# Altium footprint library Connectors.PcbLib: 73 footprints (part 3 of 5)
Each footprint in its own frame and in the unit in brackets; x right, y up, seen from the top. Pads: shape width x height; smd on the part's side, far side on the other; paste and mask are expansions set on the pad; w line width, h text height; cw(c..) or ccw(c..) is an arc to the next point about the centre after c.
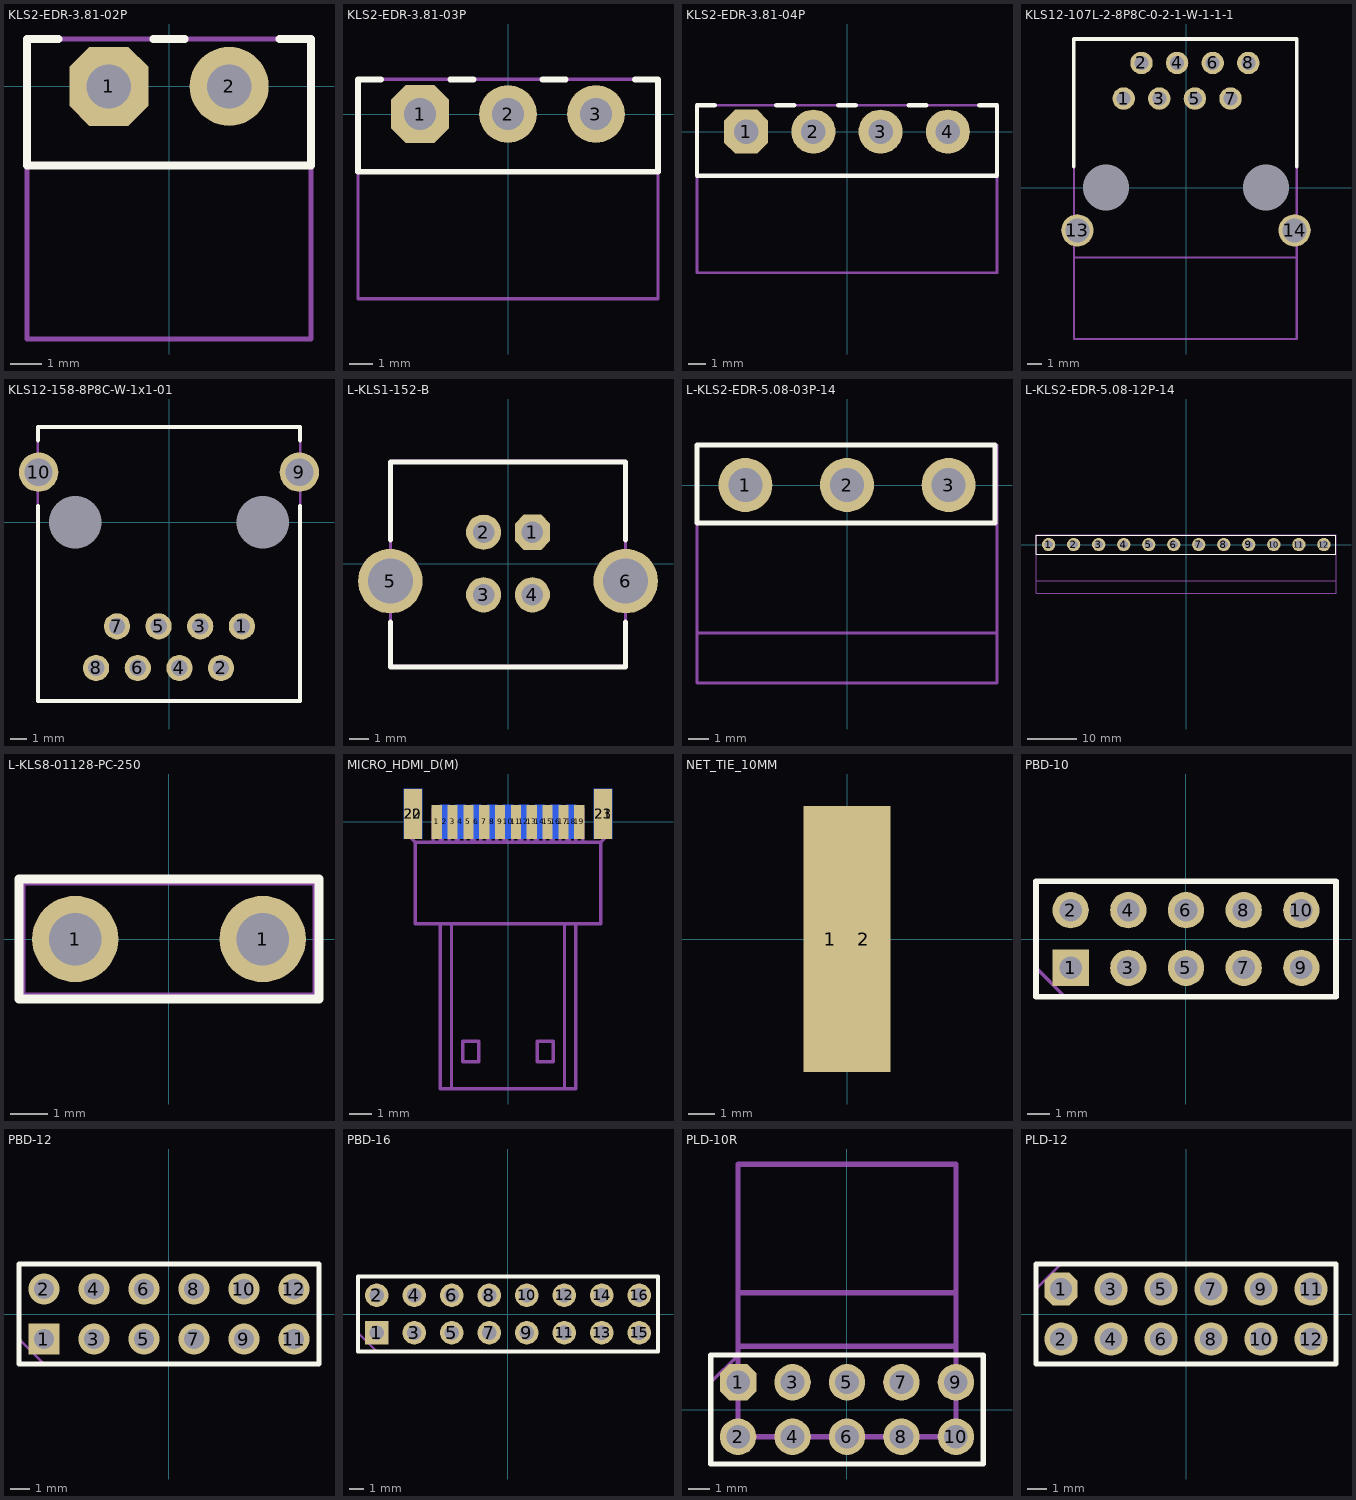
[diagram p2: the footprints below, top view; thin cyan lines are the x and y axes]

## KLS2-EDR-3.81-02P [mm]
pads (2):
  oct 2.5x2.5 hole 1.4: 1(-1.905,0)
  round 2.5 hole 1.4: 2(1.905,0)
Top Overlay:
  lines w0.25: -3.5,1.5 -4.5,1.5 -4.5,-2.5 4.5,-2.5 4.5,1.5 3.5,1.5 ; -0.5,1.5 0.5,1.5
Top Assembly:
  lines w0.15: -4.5,-2.5 4.5,-2.5 ; -4.5,-8 -4.5,1.5 4.5,1.5 4.5,-8 -4.5,-8
3D body "KEFA 3_81mm_2pin_RA.step": height 7.88, standoff -3.4, extent -4.505,-17.13 4.505,1.27

## KLS2-EDR-3.81-03P [mm]
pads (3):
  oct 2.5x2.5 hole 1.4: 1(-3.81,0)
  round 2.5 hole 1.4: 2(0,0) 3(3.81,0)
Top Overlay:
  lines w0.25: -5.5,1.5 -6.5,1.5 -6.5,-2.5 6.5,-2.5 6.5,1.5 5.5,1.5 ; -2.5,1.5 -1.5,1.5 ; 1.5,1.5 2.5,1.5
Top Assembly:
  lines w0.15: -6.5,-2.5 6.5,-2.5 ; -6.5,-8 -6.5,1.5 6.5,1.5 6.5,-8 -6.5,-8
3D body "KEFA 3_81mm_3pin_RA.step": height 7.88, standoff -3.4, extent -6.41,-17.13 6.41,1.27

## KLS2-EDR-3.81-04P [mm]
pads (4):
  oct 2.5x2.5 hole 1.4: 1(-5.715,0)
  round 2.5 hole 1.4: 2(-1.905,0) 3(1.905,0) 4(5.715,0)
Top Overlay:
  lines w0.25: -7.5,1.5 -8.5,1.5 -8.5,-2.5 8.5,-2.5 8.5,1.5 7.5,1.5 ; -4,1.5 -3,1.5 ; -0.5,1.5 0.5,1.5 ; 3.5,1.5 4.5,1.5
Top Assembly:
  lines w0.15: -8.5,-2.5 8.5,-2.5 ; -8.5,-8 8.5,-8 8.5,1.5 -8.5,1.5 -8.5,-8
3D body "KEFA 3_81mm_4pin_RA.step": height 7.88, standoff -3.4, extent -8.315,-17.13 8.315,1.27

## KLS12-107L-2-8P8C-0-2-1-W-1-1-1 [mm]
pads (12):
  round 1.6 hole 1: 1(-4.445,6.35) 2(-3.175,8.89) 3(-1.905,6.35) 4(-0.635,8.89) 5(0.635,6.35) 6(1.905,8.89) 7(3.175,6.35) 8(4.445,8.89)
  round 2.3 hole 1.7: 13(-7.75,-3.05) 14(7.75,-3.05)
  round 0 hole 3.3 unplated: -1(-5.715,0) -2(5.715,0)
Top Overlay:
  lines w0.25: -8,1.5 -8,10.6 7.9,10.6 7.9,1.5
Top Assembly:
  lines w0.15: -8,-5 7.9,-5 ; -8,-10.8 -8,0 -8,10.6 7.9,10.6 7.9,0 7.9,-10.8 -8,-10.8
3D body "1216792.stp": height 13.6, standoff -3.5, extent -8,-10.65 8,10.65

## KLS12-158-8P8C-W-1x1-01 [mm]
pads (12):
  round 1.6 hole 1: 1(4.445,-6.35) 2(3.175,-8.89) 3(1.905,-6.35) 4(0.635,-8.89) 5(-0.635,-6.35) 6(-1.905,-8.89) 7(-3.175,-6.35) 8(-4.445,-8.89)
  round 2.4 hole 1.7: 9(7.95,3.05) 10(-7.95,3.05)
  round 0 hole 3.2 unplated: -1(5.715,0) -2(-5.715,0)
Top Overlay:
  lines w0.25: -8,1 -8,-10.9 8,-10.9 8,1 ; -8,5 -8,5.8 8,5.8 8,5
Top Assembly:
  lines w0.15: -8,-10.9 -8,5.8 8,5.8 8,-10.9 -8,-10.9
3D body "c-5-2301995-3.stp": height 17, standoff -3.07, extent -8.025,-11.1 8.025,5.85

## L-KLS1-152-B [mm]
pads (6):
  oct 1.8x1.8 hole 1.1: 1(1.25,1.6)
  round 1.8 hole 1.1: 2(-1.25,1.6) 3(-1.25,-1.6) 4(1.25,-1.6)
  round 3.3 hole 2.3: 5(-6.02,-0.9) 6(6.02,-0.9)
Top Overlay:
  lines w0.25: -6,-3 -6,-5.3 6,-5.3 6,-3 ; -6,1.2 -6,5.2 6,5.2 6,1.2
Top Assembly:
  lines w0.15: -6,-5.25 6,-5.25 6,5.25 -6,5.25 -6,-5.25
3D body "61400413321.STEP": height 16, standoff -4.32, extent -7.344,-5.625 7.355,5.575

## L-KLS2-EDR-5.08-03P-14 [mm]
pads (3):
  round 2.7 hole 1.7: 1(-5.08,0) 2(0,0) 3(5.08,0)
Top Overlay:
  lines w0.25: -7.5,-1.9 7.4,-1.9 7.4,2 -7.5,2 -7.5,-1.9
Top Assembly:
  lines w0.15: -7.5,-7.4 7.5,-7.4 ; -7.5,-9.9 7.5,-9.9 7.5,2 -7.5,2 -7.5,-9.9
3D body "3P.STEP": height 8.3, standoff -3.9, extent -7.64,-10 7.6,2

## L-KLS2-EDR-5.08-12P-14 [mm]
pads (12):
  round 2.7 hole 1.7: 1(-27.94,0) 2(-22.86,0) 3(-17.78,0) 4(-12.7,0) 5(-7.62,0) 6(-2.54,0) 7(2.54,0) 8(7.62,0) 9(12.7,0) 10(17.78,0) 11(22.86,0) 12(27.94,0)
Top Overlay:
  lines w0.25: -30.4,-2 30.3,-2 30.3,1.9 -30.4,1.9 -30.4,-2
Top Assembly:
  lines w0.15: -30.5,-7.4 30.4,-7.4 ; -30.5,-9.9 30.4,-9.9 30.4,2 -30.5,2 -30.5,-9.9
3D body "10P.STEP": height 8.3, standoff -3.9, extent -30.5,-10 20.3,2
3D body "2P.STEP": height 8.3, standoff -3.9, extent 20.3,-10 30.46,2

## L-KLS8-01128-PC-250 [mm]
pads (2):
  round 2.3 hole 1.4: 1(-2.5,0) 1(2.5,0)
Top Overlay:
  lines w0.25: -4,-1.6 4,-1.6 4,1.6 -4,1.6 -4,-1.6
Top Assembly:
  lines w0.15: -3.9,-1.5 3.9,-1.5 3.9,1.5 -3.9,1.5 -3.9,-1.5
3D body "197054001.stp": height 14.46, standoff -3.49, extent -3.937,-1.524 3.937,1.524

## MICRO_HDMI_D(M) [mm]
pads (23):
  rect 0.45x1.5 smd: 1(-3.15,0) 3(-2.45,0) 5(-1.75,0) 7(-1.05,0) 9(-0.35,0) 11(0.35,0) 13(1.05,0) 15(1.75,0) 17(2.45,0) 19(3.15,0)
  rect 0.45x1.5 smd far side: 2(-2.8,0) 4(-2.1,0) 6(-1.4,0) 8(-0.7,0) 10(0,0) 12(0.7,0) 14(1.4,0) 16(2.1,0) 18(2.8,0)
  rect 0.8x2.2 smd: 20(-4.2,0.35) 21(4.2,0.35)
  rect 0.8x2.2 smd far side: 22(-4.2,0.35) 23(4.2,0.35)
Top Assembly:
  lines w0.15: -4.3,1 -4.3,-0.7 -4.1,-0.9 ; 4.3,1 4.3,-0.7 4.1,-0.9 ; -4.1,-0.9 4.1,-0.9 ; -4.1,-0.9 -4.1,-4.5 4.1,-4.5 4.1,-0.9 ; -3.3,-0.9 -3,-0.9 -3,0.6 -3.3,0.6 -3.3,-0.9 ; -3,-11.8 3,-11.8 3,-4.5 -3,-4.5 -3,-11.8 ; -2.6,-0.9 -2.3,-0.9 -2.3,0.6 -2.6,0.6 -2.6,-0.9 ; -2,-10.6 -1.3,-10.6 -1.3,-9.7 -2,-9.7 -2,-10.6 ; -1.9,-0.9 -1.6,-0.9 -1.6,0.6 -1.9,0.6 -1.9,-0.9 ; -1.2,-0.9 -0.9,-0.9 -0.9,0.6 -1.2,0.6 -1.2,-0.9 ; -0.5,-0.9 -0.2,-0.9 -0.2,0.6 -0.5,0.6 -0.5,-0.9 ; 0.2,-0.9 0.5,-0.9 0.5,0.6 0.2,0.6 0.2,-0.9 ; 0.9,-0.9 1.2,-0.9 1.2,0.6 0.9,0.6 0.9,-0.9 ; 1.3,-10.6 2,-10.6 2,-9.7 1.3,-9.7 1.3,-10.6 ; 1.6,-0.9 1.9,-0.9 1.9,0.6 1.6,0.6 1.6,-0.9 ; 2.3,-0.9 2.6,-0.9 2.6,0.6 2.3,0.6 2.3,-0.9 ; 3,-0.9 3.3,-0.9 3.3,0.6 3,0.6 3,-0.9
Bottom Assembly:
  lines w0.15: -4.307,0.988 -4.307,-0.712 -4.107,-0.912 ; -2.5,-11.8 -2.5,-4.5 ; 2.5,-11.8 2.5,-4.5 ; 4.293,0.988 4.293,-0.712 4.093,-0.912 ; -4.107,-0.912 4.093,-0.912 ; -4.107,-0.912 -4.107,-4.5 4.093,-4.5 4.093,-0.912 ; -3.007,-11.812 2.993,-11.812 2.993,-4.5 -3.007,-4.5 -3.007,-11.812 ; -2.9,-0.9 -2.6,-0.9 -2.6,0.6 -2.9,0.6 -2.9,-0.9 ; -2.2,-0.9 -1.9,-0.9 -1.9,0.6 -2.2,0.6 -2.2,-0.9 ; -1.5,-0.9 -1.2,-0.9 -1.2,0.6 -1.5,0.6 -1.5,-0.9 ; -0.8,-0.9 -0.5,-0.9 -0.5,0.6 -0.8,0.6 -0.8,-0.9 ; -0.1,-0.9 0.2,-0.9 0.2,0.6 -0.1,0.6 -0.1,-0.9 ; 0.6,-0.9 0.9,-0.9 0.9,0.6 0.6,0.6 0.6,-0.9 ; 1.3,-0.9 1.6,-0.9 1.6,0.6 1.3,0.6 1.3,-0.9 ; 2,-0.9 2.3,-0.9 2.3,0.6 2,0.6 2,-0.9 ; 2.7,-0.9 3,-0.9 3,0.6 2.7,0.6 2.7,-0.9
3D body "HDMID.STEP": height 1.4, standoff -2.4, extent -4.3,-11.81 4.3,1.3

## NET_TIE_10MM [mm]
pads (2):
  rect 2x10 smd paste-10 mask+0.102: 1(-0.635,0) 2(0.635,0)

## PBD-10 [mm]
pads (10):
  rect 1.6x1.6 hole 1: 1(-5.08,-1.27)
  round 1.6 hole 1: 2(-5.08,1.27) 3(-2.54,-1.27) 4(-2.54,1.27) 5(0,-1.27) 6(0,1.27) 7(2.54,-1.27) 8(2.54,1.27) 9(5.08,-1.27) 10(5.08,1.27)
Top Overlay:
  lines w0.25: -6.604,-2.54 6.604,-2.54 6.604,2.54 -6.604,2.54 -6.604,-2.54
Top Assembly:
  lines w0.15: -6.604,-1.27 -5.334,-2.54 ; -6.604,-2.54 6.604,-2.54 6.604,2.54 -6.604,2.54 -6.604,-2.54
3D body "PBD10.STEP": height 8.5, standoff -3, extent -6.6,-2.48 6.6,2.52

## PBD-12 [mm]
pads (12):
  rect 1.6x1.6 hole 1: 1(-6.35,-1.27)
  round 1.6 hole 1: 2(-6.35,1.27) 3(-3.81,-1.27) 4(-3.81,1.27) 5(-1.27,-1.27) 6(-1.27,1.27) 7(1.27,-1.27) 8(1.27,1.27) 9(3.81,-1.27) 10(3.81,1.27) 11(6.35,-1.27) 12(6.35,1.27)
Top Overlay:
  lines w0.25: -7.62,-2.54 7.62,-2.54 7.62,2.54 -7.62,2.54 -7.62,-2.54
Top Assembly:
  lines w0.15: -7.62,-1.27 -6.35,-2.54 ; -7.62,-2.54 7.62,-2.54 7.62,2.54 -7.62,2.54 -7.62,-2.54
3D body "PBD-12.step": height 8.5, standoff -3, extent -7.87,-2.48 7.87,2.52

## PBD-16 [mm]
pads (16):
  rect 1.6x1.6 hole 1: 1(-8.89,-1.27)
  round 1.6 hole 1: 2(-8.89,1.27) 3(-6.35,-1.27) 4(-6.35,1.27) 5(-3.81,-1.27) 6(-3.81,1.27) 7(-1.27,-1.27) 8(-1.27,1.27) 9(1.27,-1.27) 10(1.27,1.27) 11(3.81,-1.27) 12(3.81,1.27) 13(6.35,-1.27) 14(6.35,1.27) 15(8.89,-1.27) 16(8.89,1.27)
Top Overlay:
  lines w0.25: -10.16,-2.54 10.16,-2.54 10.16,2.54 -10.16,2.54 -10.16,-2.54
Top Assembly:
  lines w0.15: -10.16,-1.27 -8.89,-2.54 ; -10.16,-2.54 10.16,-2.54 10.16,2.54 -10.16,2.54 -10.16,-2.54
3D body "PBD-16.step": height 8.65, standoff -2.85, extent -10.41,-2.48 10.41,2.52

## PLD-10R [mm]
pads (10):
  oct 1.7x1.7 hole 1.1: 1(-5.08,1.27)
  round 1.7 hole 1.1: 2(-5.08,-1.27) 3(-2.54,1.27) 4(-2.54,-1.27) 5(0,1.27) 6(0,-1.27) 7(2.54,1.27) 8(2.54,-1.27) 9(5.08,1.27) 10(5.08,-1.27)
Top Overlay:
  lines w0.25: -6.35,-2.54 6.35,-2.54 6.35,2.54 -6.35,2.54 -6.35,-2.54
Mechanical 1:
  lines w0.25: -5.08,2.95 5.08,2.95 ; -5.08,5.45 5.08,5.45 ; -5.08,11.43 5.08,11.43 ; -5.08,11.45 -5.08,-1.27 5.08,-1.27 5.08,11.45
Top Assembly:
  lines w0.15: -6.35,1.27 -5.08,2.54 ; -6.35,-2.54 6.35,-2.54 6.35,2.54 -6.35,2.54 -6.35,-2.54
3D body "2x5 Male Pin Header Angle.STEP": height 5.05, standoff -2.95, extent -6.35,-1.608 6.355,13.292

## PLD-12 [mm]
pads (12):
  oct 1.7x1.7 hole 1.1: 1(-6.35,1.27)
  round 1.7 hole 1.1: 2(-6.35,-1.27) 3(-3.81,1.27) 4(-3.81,-1.27) 5(-1.27,1.27) 6(-1.27,-1.27) 7(1.27,1.27) 8(1.27,-1.27) 9(3.81,1.27) 10(3.81,-1.27) 11(6.35,1.27) 12(6.35,-1.27)
Top Overlay:
  lines w0.25: -7.62,-2.54 -7.62,2.54 7.62,2.54 7.62,-2.54 -7.62,-2.54
Top Assembly:
  lines w0.15: -7.62,1.27 -6.35,2.54 ; -7.62,-2.54 -7.62,2.54 7.62,2.54 7.62,-2.54 -7.62,-2.54
3D body "PLD-12.step": height 8.6, standoff -3, extent -7.62,-2.54 7.62,2.54